# Altium schematic symbol library Smartstrap_with_MAX30205.SchLib: 17 symbols
Pins are listed as number, name and electrical type; pins without a type are passive.

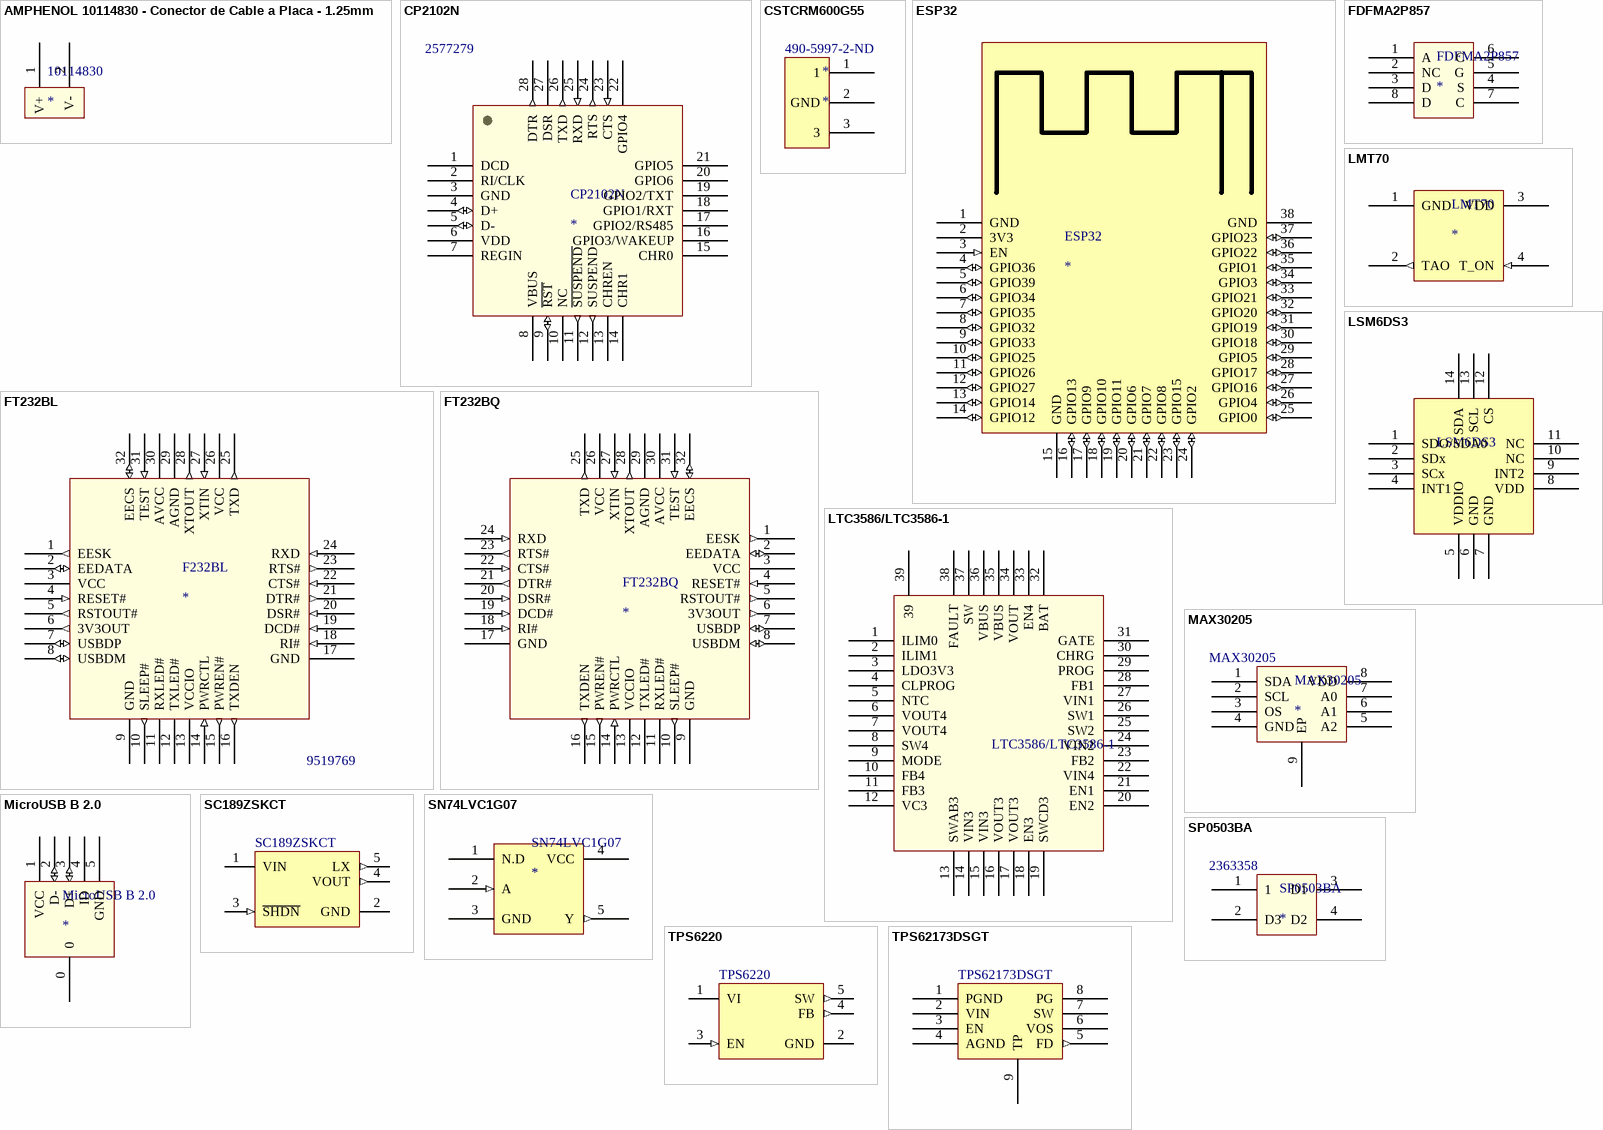
[diagram p0: symbols AMPHENOL 10114830 - Conector de Cable a Placa - 1.25mm to TPS62173DSGT]

## AMPHENOL 10114830 - Conector de Cable a Placa - 1.25mm
designator 10114830
Supplier 1: Farnell; Supplier Part Number 1: 2100756
footprint AMPHENOL 10114830 - Conector de cable a placa - 1.25mm
pins: 1 V+, 2 V-

## CP2102N
designator CP2102N  Supplier Part Number 1: 2577279
Supplier 1: Farnell
footprint CP2102N (QFN, 28-Leads, Body 5,00x5,00mm, Pitch 0,50mm, Thermal Pad 3,25x3,25mm, IPC Medium Density)
pins: 1 DCD, 2 RI/CLK, 3 GND (power), 4 D+ (io), 5 D- (io), 6 VDD (power), 7 REGIN (power), 8 VBUS (power), 9 ~{RST} (io), 10 NC, 11 ~{SUSPEND} (out), 12 SUSPEND (out), 13 CHREN, 14 CHR1, 15 CHR0, 16 GPIO3/WAKEUP, 17 GPIO2/RS485, 18 GPIO1/RXT (power), 19 GPIO2/TXT, 20 GPIO6, 21 GPIO5, 22 GPIO4, 23 CTS (in), 24 RTS (out), 25 RXD (in), 26 TXD (out), 27 DSR, 28 DTR (out)

## CSTCRM600G55
designator *  Supplier Part Number 1: 490-5997-2-ND
Supplier 1: Digi-Key
footprint CSCTCR6M00G55B
footprint CSCTCR6M00G55B
pins: 1, 2 GND, 3

## ESP32
designator ESP32
footprint ESP32
pins: 1 GND (power), 2 3V3 (power), 3 EN (in), 4 GPIO36 (io), 5 GPIO39 (io), 6 GPIO34 (io), 7 GPIO35 (io), 8 GPIO32 (io), 9 GPIO33 (io), 10 GPIO25 (io), 11 GPIO26 (io), 12 GPIO27 (io), 13 GPIO14 (io), 14 GPIO12 (io), 15 GND (power), 16 GPIO13 (io), 17 GPIO9 (io), 18 GPIO10 (io), 19 GPIO11 (io), 20 GPIO6 (io), 21 GPIO7 (io), 22 GPIO8 (io), 23 GPIO15 (io), 24 GPIO2 (io), 25 GPIO0 (io), 26 GPIO4 (io), 27 GPIO16 (io), 28 GPIO17 (io), 29 GPIO5 (io), 30 GPIO18 (io), 31 GPIO19 (io), 32 GPIO20 (io), 33 GPIO21 (io), 34 GPIO3 (io), 35 GPIO1 (io), 36 GPIO22 (io), 37 GPIO23 (io), 38 GND (power)

## FDFMA2P857
designator FDFMA2P857
Supplier 1: Digi-Key; Supplier Part Number 1: FDFMA2P857
footprint FDFMA2P857 (SON, 6-Leads, Body 2,00x2,00mm, Pitch 0,65mm, Thermal Pad 1,64x0,86mm, IPC Medium Density)
pins: 1 A, 2 NC, 3 D, 4 S, 5 G, 6 C, 7 C, 8 D

## FT232BL
designator F232BL  Supplier Part Number 1: 9519769
Supplier 1: Farnell
footprint FT232BL (TQFP, 32-Leads, Body 7,00x7,00mm, Pitch 0,80mm, IPC Medium Density)
footprint FT232BQ (QFN, 32-Leads, Body 5,00x5,00mm, Pitch 0,50mm, Thermal Pad 2,70x2,70mm, IPC Medium Density)
pins: 1 EESK (out), 2 EEDATA (io), 3 VCC (power), 4 RESET# (in), 5 RSTOUT# (out), 6 3V3OUT (out), 7 USBDP (io), 8 USBDM (io), 9 GND (power), 10 SLEEP# (out), 11 RXLED# (oc), 12 TXLED# (oc), 13 VCCIO (power), 14 PWRCTL (in), 15 PWREN# (out), 16 TXDEN (out), 17 GND (power), 18 RI# (in), 19 DCD# (in), 20 DSR# (in), 21 DTR# (out), 22 CTS# (in), 23 RTS# (out), 24 RXD (in), 25 TXD (out), 26 VCC (power), 27 XTIN (in), 28 XTOUT (out), 29 AGND (power), 30 AVCC (power), 31 TEST (in), 32 EECS (io)

## FT232BQ
designator FT232BQ
footprint FT232BQ (QFN, 32-Leads, Body 5,00x5,00mm, Pitch 0,50mm, Thermal Pad 2,70x2,70mm, IPC Medium Density)
pins: 1 EESK (out), 2 EEDATA (io), 3 VCC (power), 4 RESET# (in), 5 RSTOUT# (out), 6 3V3OUT (out), 7 USBDP (io), 8 USBDM (io), 9 GND (power), 10 SLEEP# (out), 11 RXLED# (oc), 12 TXLED# (oc), 13 VCCIO (power), 14 PWRCTL (in), 15 PWREN# (out), 16 TXDEN (out), 17 GND (power), 18 RI# (in), 19 DCD# (in), 20 DSR# (in), 21 DTR# (out), 22 CTS# (in), 23 RTS# (out), 24 RXD (in), 25 TXD (out), 26 VCC (power), 27 XTIN (in), 28 XTOUT (out), 29 AGND (power), 30 AVCC (power), 31 TEST (in), 32 EECS (io)

## LMT70
designator LMT70
Supplier 1: Farnell; Supplier Part Number 1: 2484560
footprint LMT70
pins: 1 GND (power), 2 TAO (out), 3 VDD (power), 4 T_ON (in)

## LSM6DS3
designator LSM6DS3  (value not drawn)
Supplier 1: Digi-Key; Supplier Part Number 1: 497-15383-1-ND
footprint LSM6DS3
pins: 1 SDO/SDA0, 2 SDx, 3 SCx, 4 INT1, 5 VDDIO (power), 6 GND (power), 7 GND, 8 VDD (power), 9 INT2, 10 NC, 11 NC, 12 CS, 13 SCL, 14 SDA

## LTC3586/LTC3586-1
designator LTC3586/LTC3586-1  (value not drawn)
footprint LTC3586/LTC3586-1
pins: 1 ILIM0, 2 ILIM1, 3 LDO3V3, 4 CLPROG, 5 NTC, 6 VOUT4, 7 VOUT4, 8 SW4, 9 MODE, 10 FB4, 11 FB3, 12 VC3, 13 SWAB3, 14 VIN3, 15 VIN3, 16 VOUT3, 17 VOUT3, 18 EN3, 19 SWCD3, 20 EN2, 21 EN1, 22 VIN4, 23 FB2, 24 VIN2, 25 SW2, 26 SW1, 27 VIN1, 28 FB1, 29 PROG, 30 CHRG, 31 GATE, 32 BAT, 33 EN4, 34 VOUT, 35 VBUS, 36 VBUS, 37 SW, 38 FAULT, 39

## MAX30205
designator MAX30205  Supplier Part Number 1: MAX30205
Supplier 1: Farnell
footprint MAX30205 (SON, 8-Leads, Body 3,00x3,00mm, Pitch 0,65mm, Thermal Pad 2,30x1,50mm, IPC Medium Density)
pins: 1 SDA, 2 SCL, 3 OS, 4 GND, 5 A2, 6 A1, 7 A0, 8 VDD, 9 EP

## MicroUSB B 2.0
designator MicroUSB B 2.0
footprint MicroUSB B 2.0
pins: 0, 1 VCC (power), 2 D- (io), 3 D+ (io), 4 ID, 5 GND (power)

## SC189ZSKCT
designator SC189ZSKCT
Published: 29-Jan-2009; DatasheetVersion: revA, May-2007; PackageVersion: revAW, Oct-2008; PackageReference: TSOT-OS5; Publisher: Altium Limited; PackageDescription: 5-Lead Plastic Small Outline Transistor (OS) [TSOT]; ComponentLink1Description: Manufacturer Link; ComponentLink1URL: http://www.microchip.com; ComponentLink2Description: Datasheet; ComponentLink2URL: http://ww1.microchip.com/downloads/en/DeviceDoc/22042a.pdf; ComponentLink3Description: Packaging Specification; ComponentLink3URL: http://ww1.microchip.com/downloads/en/PackagingSpec/00049AW.pdf
footprint SOT23-5 (SOT23, 5-Leads, Body 2.9x1.6mm, Pitch 0.95mm, Lead Span 2.8mm, IPC Medium Density)
pins: 1 VIN (power), 2 GND (power), 3 ~{SHDN} (in), 4 VOUT (out), 5 LX (out)

## SN74LVC1G07
designator SN74LVC1G07
Supplier 1: Farnell; Supplier Part Number 1: 2334883
footprint SN74LVC1G07 (SOT23, 5-Leads, Body 1,60x1,85mm, Pitch 0,50mm, IPC Medium Density)
pins: 1 N.D, 2 A (in), 3 GND, 4 VCC (power), 5 Y (out)

## SP0503BA
designator SP0503BA  Supplier Part Number 1: 2363358
Supplier 1: Farnell
footprint SP0503BA (SOT143, 4-Leads, Body 2,92x2,37mm, Pitch 1,90mm, IPC Medium Density)
pins: 1, 2 D3, 3 D1, 4 D2

## TPS6220
designator TPS6220
Published: 29-Jan-2009; DatasheetVersion: revA, May-2007; PackageVersion: revAW, Oct-2008; PackageReference: TSOT-OS5; Publisher: Altium Limited; PackageDescription: 5-Lead Plastic Small Outline Transistor (OS) [TSOT]; ComponentLink1Description: Manufacturer Link; ComponentLink1URL: http://www.microchip.com; ComponentLink2Description: Datasheet; ComponentLink2URL: http://ww1.microchip.com/downloads/en/DeviceDoc/22042a.pdf; ComponentLink3Description: Packaging Specification; ComponentLink3URL: http://ww1.microchip.com/downloads/en/PackagingSpec/00049AW.pdf
footprint SOT23-5 (SOT23, 5-Leads, Body 2.9x1.6mm, Pitch 0.95mm, Lead Span 2.8mm, IPC Medium Density)
pins: 1 VI (power), 2 GND (power), 3 EN (in), 4 FB (out), 5 SW (out)

## TPS62173DSGT
designator TPS62173DSGT
Published: 29-Jan-2009; DatasheetVersion: revA, May-2007; PackageVersion: revAW, Oct-2008; PackageReference: TSOT-OS5; Publisher: Altium Limited; PackageDescription: 5-Lead Plastic Small Outline Transistor (OS) [TSOT]; ComponentLink1Description: Manufacturer Link; ComponentLink1URL: http://www.microchip.com; ComponentLink2Description: Datasheet; ComponentLink2URL: http://ww1.microchip.com/downloads/en/DeviceDoc/22042a.pdf; ComponentLink3Description: Packaging Specification; ComponentLink3URL: http://ww1.microchip.com/downloads/en/PackagingSpec/00049AW.pdf
footprint TPS62173DSGT
pins: 1 PGND (power), 2 VIN (power), 3 EN, 4 AGND, 5 FD (out), 6 VOS, 7 SW, 8 PG, 9 TP